# Altium schematic symbol library Schlib.SchLib: 5 symbols
Pins are listed as number, name and electrical type; pins without a type are passive.

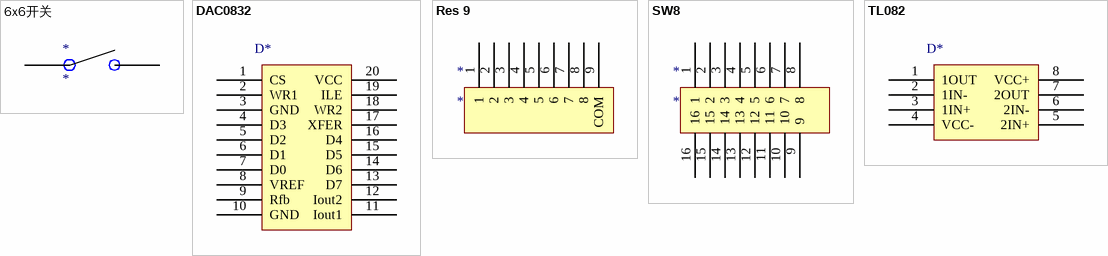
[diagram p0: symbols 6x6开关 to TL082]

## 6x6开关
designator *
footprint AN66
pins: 1, 2

## DAC0832
designator D*, comment DAC  (value not drawn)
footprint DIP-20N
pins: 1 CS, 2 WR1, 3 GND, 4 D3, 5 D2, 6 D1, 7 D0, 8 VREF, 9 Rfb, 10 GND, 11 Iout1, 12 Iout2, 13 D7, 14 D6, 15 D5, 16 D4, 17 XFER, 18 WR2, 19 ILE, 20 VCC

## Res 9
designator *
footprint HDR1X9 (Connector; Header; 9 Position)
pins: 1, 2, 3, 4, 5, 6, 7, 8, 9 COM

## SW8
designator *
footprint DIP-16N
pins: 1, 2, 3, 4, 5, 6, 7, 8, 9, 10, 11, 12, 13, 14, 15, 16

## TL082
designator D*, comment D  (value not drawn)
footprint DIP-8N
pins: 1 1OUT, 2 1IN-, 3 1IN+, 4 VCC-, 5 2IN+, 6 2IN-, 7 2OUT, 8 VCC+